# Altium footprint library NCP700B_TSOP5.PcbLib: 1 footprints
Each footprint in its own frame and in the unit in brackets; x right, y up, seen from the top. Pads: shape width x height; smd on the part's side, far side on the other; paste and mask are expansions set on the pad; w line width, h text height; cw(c..) or ccw(c..) is an arc to the next point about the centre after c.
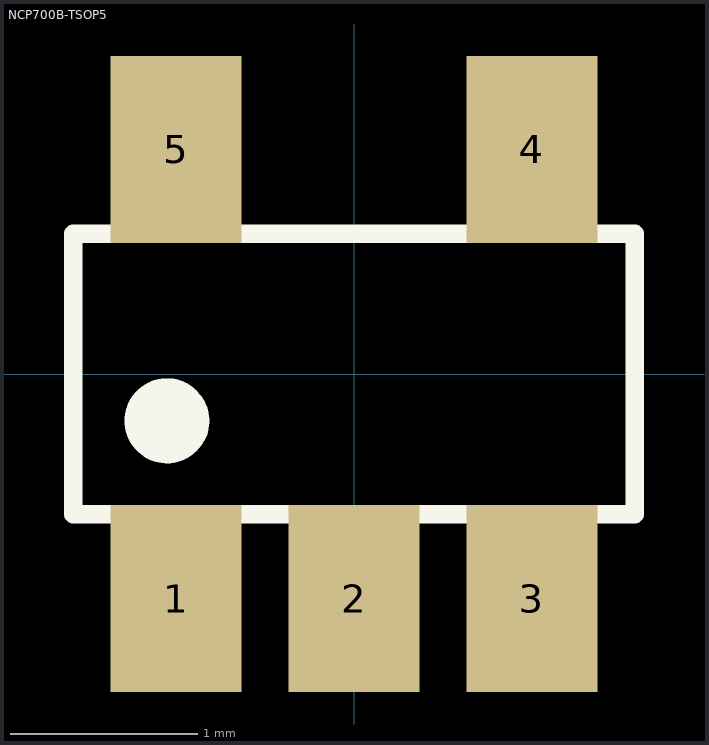
[diagram p0: the footprint, top view; thin cyan lines are the x and y axes]

## NCP700B-TSOP5 [mm]
pads (5):
  rect 0.7x1 smd: 1(-0.95,-1.2) 2(0,-1.2) 3(0.95,-1.2) 4(0.95,1.2) 5(-0.95,1.2)
Top Overlay:
  circle w0.254: c-1,-0.25 r0.1
  lines w0.1: -1.5,-0.75 1.5,-0.75 1.5,0.75 -1.5,0.75 -1.5,-0.75
3D body "TSOP-5_ONS.step": height 1.09, standoff 0, extent -1.499,-1.499 1.499,1.499